# EAGLE library part BT832A (library customics)
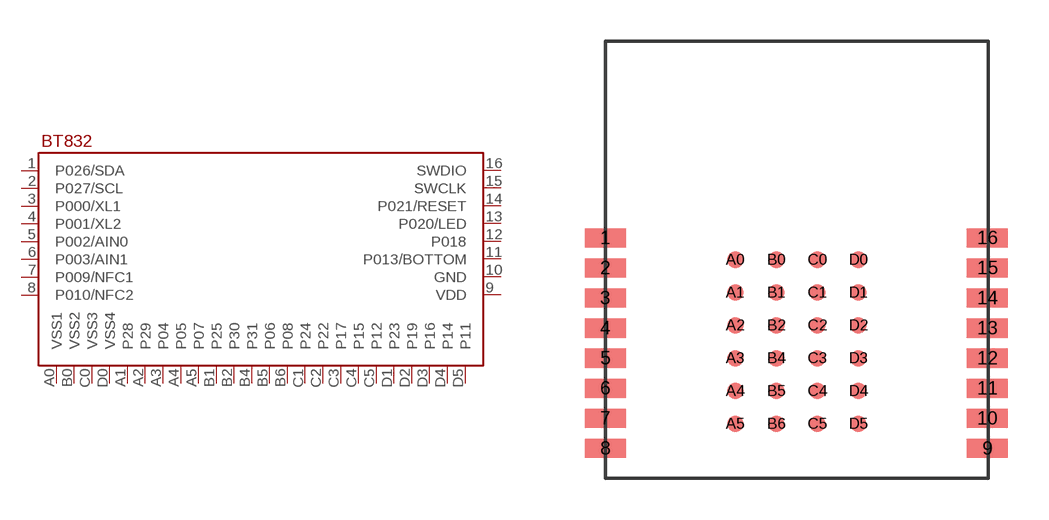
[diagram p9: symbol with the pads of BT832A; footprint BT832A]

Designator prefix U

## BT832A  [BT832A]
1  P026/SDA
2  P027/SCL
3  P000/XL1
4  P001/XL2
5  P002/AIN0
6  P003/AIN1
7  P009/NFC1
8  P010/NFC2
9  VDD
10  GND
11  P013/BOTTOM
12  P018
13  P020/LED
14  P021/RESET
15  SWCLK
16  SWDIO
A0  VSS1
A1  P28
A2  P29
A3  P04
A4  P05
A5  P07
B0  VSS2
B1  P25
B2  P30
B4  P31
B5  P06
B6  P08
C0  VSS3
C1  P24
C2  P22
C3  P17
C4  P15
C5  P12
D0  VSS4
D1  P23
D2  P19
D3  P16
D4  P14
D5  P11

## Footprint BT832A (pad centres in mm)
smd 1.5 x 0.7: 1 -7,0.8; 2 -7,-0.3; 3 -7,-1.4; 4 -7,-2.5; 5 -7,-3.6; 6 -7,-4.7; 7 -7,-5.8; 8 -7,-6.9; 9 6.97,-6.9; 10 6.97,-5.8; 11 6.97,-4.7; 12 6.97,-3.6; 13 6.97,-2.5; 14 6.97,-1.4; 15 6.97,-0.3; 16 6.97,0.8
smd 0.6 x 0.6: A0 -2.25,0; A1 -2.25,-1.2; A2 -2.25,-2.4; A3 -2.25,-3.6; A4 -2.25,-4.8; A5 -2.25,-6; B0 -0.75,0; B1 -0.75,-1.2; B2 -0.75,-2.4; B4 -0.75,-3.6; B5 -0.75,-4.8; B6 -0.75,-6; C0 0.75,0; C1 0.75,-1.2; C2 0.75,-2.4; C3 0.75,-3.6; C4 0.75,-4.8; C5 0.75,-6; D0 2.25,0; D1 2.25,-1.2; D2 2.25,-2.4; D3 2.25,-3.6; D4 2.25,-4.8; D5 2.25,-6